# Altium integrated library Microchip Power Management Line Regulator.IntLib: 1169 symbols (part 4 of 31)
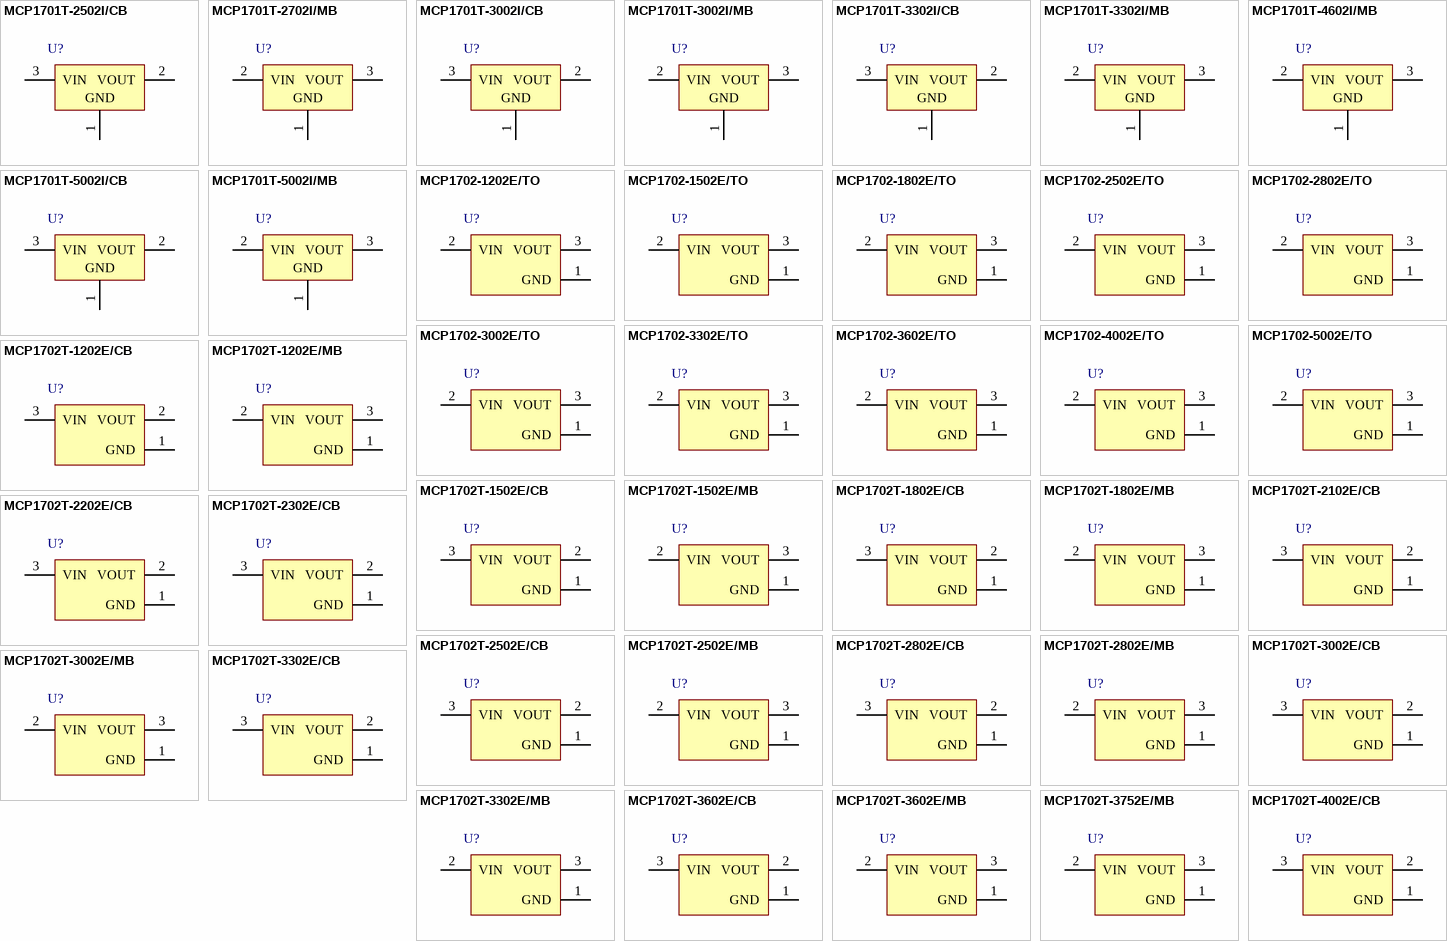
[diagram p32: symbols MCP1701T-2502I/CB to MCP1702T-4002E/CB]

## MCP1702T-3302E/CB
designator U?
250 mA Low Quiescent Current LDO Regulator, 3-Pin SOT-23A, Extended Temperature, Tape and Reel; Manufacturer: Microchip; PartNumber: MCP1702T-3302E/CB; DatasheetVersion: revD, Jun-2009; PackageVersion: revBB, Aug-2009; PackageReference: SOT-23A-CB3; PackageDescription: 3-Lead Plastic Small Outline Transistor (CB) [SOT-23A]; Supplier 1: Digi-Key; Supplier Part Number 1: MCP1702T-3302E/CBTR-ND; Supplier 2: Digi-Key; Supplier Part Number 2: MCP1702T-3302E/CBCT-ND; Supplier 3: Digi-Key; Supplier Part Number 3: MCP1702T-3302E/CBDKR-ND; Supplier 4: Farnell; Supplier Part Number 4: 1331490; Supplier 5: Farnell; Supplier Part Number 5: 1331490RL; Supplier 6: Farnell; Supplier Part Number 6: 2143269; Supplier 7: Newark; Supplier Part Number 7: 84R5179; Supplier 8: Newark; Supplier Part Number 8: 56K6992; Supplier 9: Mouser; Supplier Part Number 9: 579-MCP1702T3302E/CB; Mounting Technology: Surface Mount; ComponentLink1Description: Manufacturer URL; ComponentLink1URL: http://www.microchip.com/; ComponentLink2Description: Datasheet; ComponentLink2URL: http://ww1.microchip.com/downloads/en/DeviceDoc/22008d.pdf; ComponentLink3Description: Package Specification; ComponentLink3URL: http://www.microchip.com/stellent/groups/techpub_sg/documents/packagingspec/en012702.pdf
footprint SOT-23A-CB3_N (SOT346, 3-Leads, Body 2.9x1.5mm, Pitch 0.95mm, Lead Span 2.6mm, IPC Medium Density)
footprint SOT-23A-CB3_L (SOT346, 3-Leads, Body 2.9x1.5mm, Pitch 0.95mm, Lead Span 2.6mm, IPC High Density)
footprint SOT-23A-CB3_M (SOT346, 3-Leads, Body 2.9x1.5mm, Pitch 0.95mm, Lead Span 2.6mm, IPC Low Density)
pins: 1 GND (power), 2 VOUT (power), 3 VIN (power)

## MCP1702T-3302E/MB
designator U?
250 mA Low Quiescent Current LDO Regulator, 3-Pin SOT-89, Extended Temperature, Tape and Reel; Manufacturer: Microchip; PartNumber: MCP1702T-3302E/MB; DatasheetVersion: revD, Jun-2009; PackageVersion: revBB, Aug-2009; PackageReference: SOT-89-MB3; PackageDescription: 3-Lead Plastic Small Outline Transistor Header (MB) [SOT-89]; Supplier 1: Digi-Key; Supplier Part Number 1: MCP1702T-3302E/MBTR-ND; Supplier 2: Digi-Key; Supplier Part Number 2: MCP1702T-3302E/MBCT-ND; Supplier 3: Digi-Key; Supplier Part Number 3: MCP1702T-3302E/MBDKR-ND; Supplier 4: Farnell; Supplier Part Number 4: 1605558RL; Supplier 5: Farnell; Supplier Part Number 5: 1605558; Supplier 6: Newark; Supplier Part Number 6: 11N7989; Supplier 7: Newark; Supplier Part Number 7: 56K6993; Supplier 8: Mouser; Supplier Part Number 8: 579-MCP1702T3302E/MB; Mounting Technology: Surface Mount; Code_IPC: SOT89; ComponentLink1Description: Manufacturer URL; ComponentLink1URL: http://www.microchip.com/; ComponentLink2Description: Datasheet; ComponentLink2URL: http://ww1.microchip.com/downloads/en/DeviceDoc/22008d.pdf; ComponentLink3Description: Package Specification; ComponentLink3URL: http://www.microchip.com/stellent/groups/techpub_sg/documents/packagingspec/en012702.pdf
footprint SOT-89-MB3_N (SOT89, 3-Leads, Body 4.5x2.4 mm, Pitch 1.5mm, Lead Span 4.1mm, IPC Medium Density)
footprint SOT-89-MB3_L (SOT89, 3-Leads, Body 4.5x2.4 mm, Pitch 1.5mm, Lead Span 4.1mm, IPC High Density)
footprint SOT-89-MB3_M (SOT89, 3-Leads, Body 4.5x2.4 mm, Pitch 1.5mm, Lead Span 4.1mm, IPC Low Density)
pins: 1 GND (power), 2 VIN (power), 3 VOUT (power)

## MCP1702T-3602E/CB
designator U?
250 mA Low Quiescent Current LDO Regulator, 3-Pin SOT-23A, Extended Temperature, Tape and Reel; Manufacturer: Microchip; PartNumber: MCP1702T-3602E/CB; DatasheetVersion: revD, Jun-2009; PackageVersion: revBB, Aug-2009; PackageReference: SOT-23A-CB3; PackageDescription: 3-Lead Plastic Small Outline Transistor (CB) [SOT-23A]; Supplier 1: Digi-Key; Supplier Part Number 1: MCP1702T-3602E/CB-ND; Supplier 2: Newark; Supplier Part Number 2: 23T2775; Supplier 3: Mouser; Supplier Part Number 3: 579-MCP1702T-3602ECB; Mounting Technology: Surface Mount; ComponentLink1Description: Manufacturer URL; ComponentLink1URL: http://www.microchip.com/; ComponentLink2Description: Datasheet; ComponentLink2URL: http://ww1.microchip.com/downloads/en/DeviceDoc/22008d.pdf; ComponentLink3Description: Package Specification; ComponentLink3URL: http://www.microchip.com/stellent/groups/techpub_sg/documents/packagingspec/en012702.pdf
footprint SOT-23A-CB3_N (SOT346, 3-Leads, Body 2.9x1.5mm, Pitch 0.95mm, Lead Span 2.6mm, IPC Medium Density)
footprint SOT-23A-CB3_L (SOT346, 3-Leads, Body 2.9x1.5mm, Pitch 0.95mm, Lead Span 2.6mm, IPC High Density)
footprint SOT-23A-CB3_M (SOT346, 3-Leads, Body 2.9x1.5mm, Pitch 0.95mm, Lead Span 2.6mm, IPC Low Density)
pins: 1 GND (power), 2 VOUT (power), 3 VIN (power)

## MCP1702T-3602E/MB
designator U?
250 mA Low Quiescent Current LDO Regulator, 3-Pin SOT-89, Extended Temperature, Tape and Reel; Manufacturer: Microchip; PartNumber: MCP1702T-3602E/MB; DatasheetVersion: revD, Jun-2009; PackageVersion: revBB, Aug-2009; PackageReference: SOT-89-MB3; PackageDescription: 3-Lead Plastic Small Outline Transistor Header (MB) [SOT-89]; Supplier 1: Digi-Key; Supplier Part Number 1: MCP1702T-3602E/MB-ND; Supplier 2: Mouser; Supplier Part Number 2: 579-MCP1702T-3602EMB; Mounting Technology: Surface Mount; Code_IPC: SOT89; ComponentLink1Description: Manufacturer URL; ComponentLink1URL: http://www.microchip.com/; ComponentLink2Description: Datasheet; ComponentLink2URL: http://ww1.microchip.com/downloads/en/DeviceDoc/22008d.pdf; ComponentLink3Description: Package Specification; ComponentLink3URL: http://www.microchip.com/stellent/groups/techpub_sg/documents/packagingspec/en012702.pdf
footprint SOT-89-MB3_N (SOT89, 3-Leads, Body 4.5x2.4 mm, Pitch 1.5mm, Lead Span 4.1mm, IPC Medium Density)
footprint SOT-89-MB3_L (SOT89, 3-Leads, Body 4.5x2.4 mm, Pitch 1.5mm, Lead Span 4.1mm, IPC High Density)
footprint SOT-89-MB3_M (SOT89, 3-Leads, Body 4.5x2.4 mm, Pitch 1.5mm, Lead Span 4.1mm, IPC Low Density)
pins: 1 GND (power), 2 VIN (power), 3 VOUT (power)

## MCP1702T-3752E/MB
designator U?
250 mA Low Quiescent Current LDO Regulator, 3-Pin SOT-89, Extended Temperature, Tape and Reel; Manufacturer: Microchip; PartNumber: MCP1702T-3752E/MB; DatasheetVersion: revD, Jun-2009; PackageVersion: revBB, Aug-2009; PackageReference: SOT-89-MB3; PackageDescription: 3-Lead Plastic Small Outline Transistor Header (MB) [SOT-89]; Mounting Technology: Surface Mount; Code_IPC: SOT89; ComponentLink1Description: Manufacturer URL; ComponentLink1URL: http://www.microchip.com/; ComponentLink2Description: Datasheet; ComponentLink2URL: http://ww1.microchip.com/downloads/en/DeviceDoc/22008d.pdf; ComponentLink3Description: Package Specification; ComponentLink3URL: http://www.microchip.com/stellent/groups/techpub_sg/documents/packagingspec/en012702.pdf
footprint SOT-89-MB3_N (SOT89, 3-Leads, Body 4.5x2.4 mm, Pitch 1.5mm, Lead Span 4.1mm, IPC Medium Density)
footprint SOT-89-MB3_L (SOT89, 3-Leads, Body 4.5x2.4 mm, Pitch 1.5mm, Lead Span 4.1mm, IPC High Density)
footprint SOT-89-MB3_M (SOT89, 3-Leads, Body 4.5x2.4 mm, Pitch 1.5mm, Lead Span 4.1mm, IPC Low Density)
pins: 1 GND (power), 2 VIN (power), 3 VOUT (power)

## MCP1702T-4002E/CB
designator U?
250 mA Low Quiescent Current LDO Regulator, 3-Pin SOT-23A, Extended Temperature, Tape and Reel; Manufacturer: Microchip; PartNumber: MCP1702T-4002E/CB; DatasheetVersion: revD, Jun-2009; PackageVersion: revBB, Aug-2009; PackageReference: SOT-23A-CB3; PackageDescription: 3-Lead Plastic Small Outline Transistor (CB) [SOT-23A]; Supplier 1: Digi-Key; Supplier Part Number 1: MCP1702T-4002E/CBTR-ND; Supplier 2: Digi-Key; Supplier Part Number 2: MCP1702T-4002E/CBCT-ND; Supplier 3: Digi-Key; Supplier Part Number 3: MCP1702T-4002E/CBDKR-ND; Supplier 4: Newark; Supplier Part Number 4: 52R9898; Supplier 5: Mouser; Supplier Part Number 5: 579-MCP1702T4002E/CB; Mounting Technology: Surface Mount; ComponentLink1Description: Manufacturer URL; ComponentLink1URL: http://www.microchip.com/; ComponentLink2Description: Datasheet; ComponentLink2URL: http://ww1.microchip.com/downloads/en/DeviceDoc/22008d.pdf; ComponentLink3Description: Package Specification; ComponentLink3URL: http://www.microchip.com/stellent/groups/techpub_sg/documents/packagingspec/en012702.pdf
footprint SOT-23A-CB3_N (SOT346, 3-Leads, Body 2.9x1.5mm, Pitch 0.95mm, Lead Span 2.6mm, IPC Medium Density)
footprint SOT-23A-CB3_L (SOT346, 3-Leads, Body 2.9x1.5mm, Pitch 0.95mm, Lead Span 2.6mm, IPC High Density)
footprint SOT-23A-CB3_M (SOT346, 3-Leads, Body 2.9x1.5mm, Pitch 0.95mm, Lead Span 2.6mm, IPC Low Density)
pins: 1 GND (power), 2 VOUT (power), 3 VIN (power)

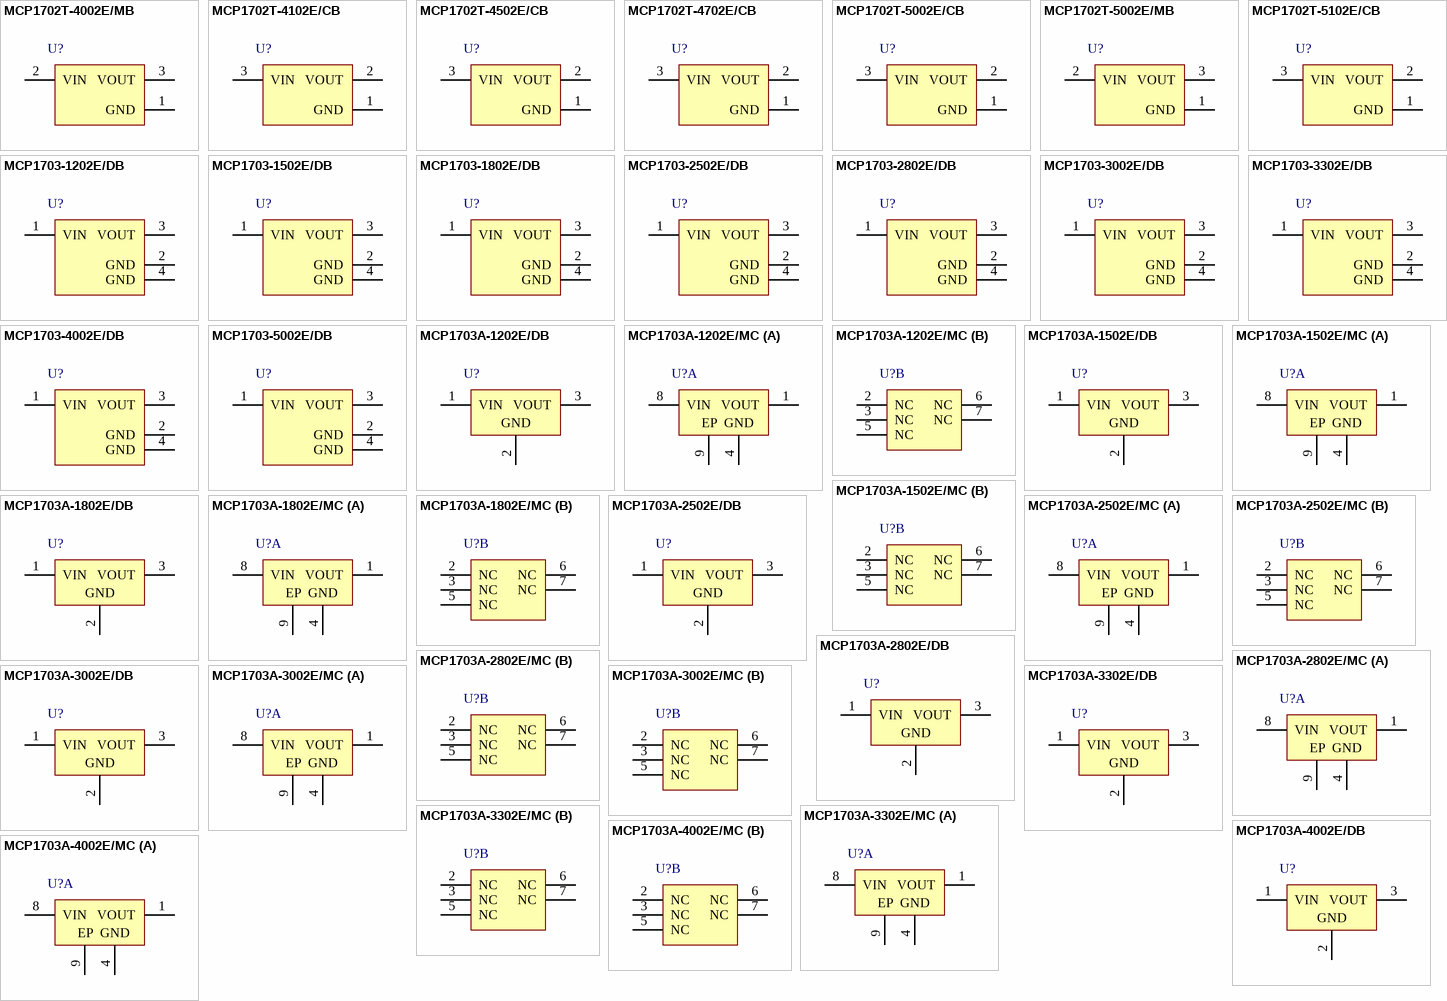
[diagram p3: symbols MCP1702T-4002E/MB to MCP1703A-4002E/MC]

## MCP1702T-4002E/MB
designator U?
250 mA Low Quiescent Current LDO Regulator, 3-Pin SOT-89, Extended Temperature, Tape and Reel; Manufacturer: Microchip; PartNumber: MCP1702T-4002E/MB; DatasheetVersion: revD, Jun-2009; PackageVersion: revBB, Aug-2009; PackageReference: SOT-89-MB3; PackageDescription: 3-Lead Plastic Small Outline Transistor Header (MB) [SOT-89]; Supplier 1: Digi-Key; Supplier Part Number 1: MCP1702T-4002E/MBTR-ND; Supplier 2: Digi-Key; Supplier Part Number 2: MCP1702T-4002E/MBCT-ND; Supplier 3: Digi-Key; Supplier Part Number 3: MCP1702T-4002E/MBDKR-ND; Supplier 4: Mouser; Supplier Part Number 4: 579-MCP1702T4002E/MB; Mounting Technology: Surface Mount; Code_IPC: SOT89; ComponentLink1Description: Manufacturer URL; ComponentLink1URL: http://www.microchip.com/; ComponentLink2Description: Datasheet; ComponentLink2URL: http://ww1.microchip.com/downloads/en/DeviceDoc/22008d.pdf; ComponentLink3Description: Package Specification; ComponentLink3URL: http://www.microchip.com/stellent/groups/techpub_sg/documents/packagingspec/en012702.pdf
footprint SOT-89-MB3_N (SOT89, 3-Leads, Body 4.5x2.4 mm, Pitch 1.5mm, Lead Span 4.1mm, IPC Medium Density)
footprint SOT-89-MB3_L (SOT89, 3-Leads, Body 4.5x2.4 mm, Pitch 1.5mm, Lead Span 4.1mm, IPC High Density)
footprint SOT-89-MB3_M (SOT89, 3-Leads, Body 4.5x2.4 mm, Pitch 1.5mm, Lead Span 4.1mm, IPC Low Density)
pins: 1 GND (power), 2 VIN (power), 3 VOUT (power)

## MCP1702T-4102E/CB
designator U?
250 mA Low Quiescent Current LDO Regulator, 3-Pin SOT-23A, Extended Temperature, Tape and Reel; Manufacturer: Microchip; PartNumber: MCP1702T-4102E/CB; DatasheetVersion: revD, Jun-2009; PackageVersion: revBB, Aug-2009; PackageReference: SOT-23A-CB3; PackageDescription: 3-Lead Plastic Small Outline Transistor (CB) [SOT-23A]; Supplier 1: Digi-Key; Supplier Part Number 1: MCP1702T-4102E/CB-ND; Supplier 2: Mouser; Supplier Part Number 2: 579-MCP1702T-4102ECB; Mounting Technology: Surface Mount; ComponentLink1Description: Manufacturer URL; ComponentLink1URL: http://www.microchip.com/; ComponentLink2Description: Datasheet; ComponentLink2URL: http://ww1.microchip.com/downloads/en/DeviceDoc/22008d.pdf; ComponentLink3Description: Package Specification; ComponentLink3URL: http://www.microchip.com/stellent/groups/techpub_sg/documents/packagingspec/en012702.pdf
footprint SOT-23A-CB3_N (SOT346, 3-Leads, Body 2.9x1.5mm, Pitch 0.95mm, Lead Span 2.6mm, IPC Medium Density)
footprint SOT-23A-CB3_L (SOT346, 3-Leads, Body 2.9x1.5mm, Pitch 0.95mm, Lead Span 2.6mm, IPC High Density)
footprint SOT-23A-CB3_M (SOT346, 3-Leads, Body 2.9x1.5mm, Pitch 0.95mm, Lead Span 2.6mm, IPC Low Density)
pins: 1 GND (power), 2 VOUT (power), 3 VIN (power)

## MCP1702T-4502E/CB
designator U?
250 mA Low Quiescent Current LDO Regulator, 3-Pin SOT-23A, Extended Temperature, Tape and Reel; Manufacturer: Microchip; PartNumber: MCP1702T-4502E/CB; DatasheetVersion: revD, Jun-2009; PackageVersion: revBB, Aug-2009; PackageReference: SOT-23A-CB3; PackageDescription: 3-Lead Plastic Small Outline Transistor (CB) [SOT-23A]; Mounting Technology: Surface Mount; ComponentLink1Description: Manufacturer URL; ComponentLink1URL: http://www.microchip.com/; ComponentLink2Description: Datasheet; ComponentLink2URL: http://ww1.microchip.com/downloads/en/DeviceDoc/22008d.pdf; ComponentLink3Description: Package Specification; ComponentLink3URL: http://www.microchip.com/stellent/groups/techpub_sg/documents/packagingspec/en012702.pdf
footprint SOT-23A-CB3_N (SOT346, 3-Leads, Body 2.9x1.5mm, Pitch 0.95mm, Lead Span 2.6mm, IPC Medium Density)
footprint SOT-23A-CB3_L (SOT346, 3-Leads, Body 2.9x1.5mm, Pitch 0.95mm, Lead Span 2.6mm, IPC High Density)
footprint SOT-23A-CB3_M (SOT346, 3-Leads, Body 2.9x1.5mm, Pitch 0.95mm, Lead Span 2.6mm, IPC Low Density)
pins: 1 GND (power), 2 VOUT (power), 3 VIN (power)

## MCP1702T-4702E/CB
designator U?
250 mA Low Quiescent Current LDO Regulator, 3-Pin SOT-23A, Extended Temperature, Tape and Reel; Manufacturer: Microchip; PartNumber: MCP1702T-4702E/CB; DatasheetVersion: revD, Jun-2009; PackageVersion: revBB, Aug-2009; PackageReference: SOT-23A-CB3; PackageDescription: 3-Lead Plastic Small Outline Transistor (CB) [SOT-23A]; Supplier 1: Digi-Key; Supplier Part Number 1: MCP1702T-4702E/CB-ND; Supplier 2: Mouser; Supplier Part Number 2: 579-MCP1702T-4702ECB; Mounting Technology: Surface Mount; ComponentLink1Description: Manufacturer URL; ComponentLink1URL: http://www.microchip.com/; ComponentLink2Description: Datasheet; ComponentLink2URL: http://ww1.microchip.com/downloads/en/DeviceDoc/22008d.pdf; ComponentLink3Description: Package Specification; ComponentLink3URL: http://www.microchip.com/stellent/groups/techpub_sg/documents/packagingspec/en012702.pdf
footprint SOT-23A-CB3_N (SOT346, 3-Leads, Body 2.9x1.5mm, Pitch 0.95mm, Lead Span 2.6mm, IPC Medium Density)
footprint SOT-23A-CB3_L (SOT346, 3-Leads, Body 2.9x1.5mm, Pitch 0.95mm, Lead Span 2.6mm, IPC High Density)
footprint SOT-23A-CB3_M (SOT346, 3-Leads, Body 2.9x1.5mm, Pitch 0.95mm, Lead Span 2.6mm, IPC Low Density)
pins: 1 GND (power), 2 VOUT (power), 3 VIN (power)

## MCP1702T-5002E/CB
designator U?
250 mA Low Quiescent Current LDO Regulator, 3-Pin SOT-23A, Extended Temperature, Tape and Reel; Manufacturer: Microchip; PartNumber: MCP1702T-5002E/CB; DatasheetVersion: revD, Jun-2009; PackageVersion: revBB, Aug-2009; PackageReference: SOT-23A-CB3; PackageDescription: 3-Lead Plastic Small Outline Transistor (CB) [SOT-23A]; Supplier 1: Digi-Key; Supplier Part Number 1: MCP1702T-5002E/CBTR-ND; Supplier 2: Digi-Key; Supplier Part Number 2: MCP1702T-5002E/CBCT-ND; Supplier 3: Digi-Key; Supplier Part Number 3: MCP1702T-5002E/CBDKR-ND; Supplier 4: Farnell; Supplier Part Number 4: 1331491; Supplier 5: Farnell; Supplier Part Number 5: 1331491RL; Supplier 6: Newark; Supplier Part Number 6: 84R5180; Supplier 7: Newark; Supplier Part Number 7: 56K6994; Supplier 8: Mouser; Supplier Part Number 8: 579-MCP1702T5002E/CB; Mounting Technology: Surface Mount; ComponentLink1Description: Manufacturer URL; ComponentLink1URL: http://www.microchip.com/; ComponentLink2Description: Datasheet; ComponentLink2URL: http://ww1.microchip.com/downloads/en/DeviceDoc/22008d.pdf; ComponentLink3Description: Package Specification; ComponentLink3URL: http://www.microchip.com/stellent/groups/techpub_sg/documents/packagingspec/en012702.pdf
footprint SOT-23A-CB3_N (SOT346, 3-Leads, Body 2.9x1.5mm, Pitch 0.95mm, Lead Span 2.6mm, IPC Medium Density)
footprint SOT-23A-CB3_L (SOT346, 3-Leads, Body 2.9x1.5mm, Pitch 0.95mm, Lead Span 2.6mm, IPC High Density)
footprint SOT-23A-CB3_M (SOT346, 3-Leads, Body 2.9x1.5mm, Pitch 0.95mm, Lead Span 2.6mm, IPC Low Density)
pins: 1 GND (power), 2 VOUT (power), 3 VIN (power)

## MCP1702T-5002E/MB
designator U?
250 mA Low Quiescent Current LDO Regulator, 3-Pin SOT-89, Extended Temperature, Tape and Reel; Manufacturer: Microchip; PartNumber: MCP1702T-5002E/MB; DatasheetVersion: revD, Jun-2009; PackageVersion: revBB, Aug-2009; PackageReference: SOT-89-MB3; PackageDescription: 3-Lead Plastic Small Outline Transistor Header (MB) [SOT-89]; Supplier 1: Digi-Key; Supplier Part Number 1: MCP1702T-5002E/MBTR-ND; Supplier 2: Digi-Key; Supplier Part Number 2: MCP1702T-5002E/MBCT-ND; Supplier 3: Digi-Key; Supplier Part Number 3: MCP1702T-5002E/MBDKR-ND; Supplier 4: Farnell; Supplier Part Number 4: 1605559; Supplier 5: Farnell; Supplier Part Number 5: 1605559RL; Supplier 6: Newark; Supplier Part Number 6: 56K6995; Supplier 7: Mouser; Supplier Part Number 7: 579-MCP1702T5002E/MB; Mounting Technology: Surface Mount; Code_IPC: SOT89; ComponentLink1Description: Manufacturer URL; ComponentLink1URL: http://www.microchip.com/; ComponentLink2Description: Datasheet; ComponentLink2URL: http://ww1.microchip.com/downloads/en/DeviceDoc/22008d.pdf; ComponentLink3Description: Package Specification; ComponentLink3URL: http://www.microchip.com/stellent/groups/techpub_sg/documents/packagingspec/en012702.pdf
footprint SOT-89-MB3_N (SOT89, 3-Leads, Body 4.5x2.4 mm, Pitch 1.5mm, Lead Span 4.1mm, IPC Medium Density)
footprint SOT-89-MB3_L (SOT89, 3-Leads, Body 4.5x2.4 mm, Pitch 1.5mm, Lead Span 4.1mm, IPC High Density)
footprint SOT-89-MB3_M (SOT89, 3-Leads, Body 4.5x2.4 mm, Pitch 1.5mm, Lead Span 4.1mm, IPC Low Density)
pins: 1 GND (power), 2 VIN (power), 3 VOUT (power)

## MCP1702T-5102E/CB
designator U?
250 mA Low Quiescent Current LDO Regulator, 3-Pin SOT-23A, Extended Temperature, Tape and Reel; Manufacturer: Microchip; PartNumber: MCP1702T-5102E/CB; DatasheetVersion: revD, Jun-2009; PackageVersion: revBB, Aug-2009; PackageReference: SOT-23A-CB3; PackageDescription: 3-Lead Plastic Small Outline Transistor (CB) [SOT-23A]; Mounting Technology: Surface Mount; ComponentLink1Description: Manufacturer URL; ComponentLink1URL: http://www.microchip.com/; ComponentLink2Description: Datasheet; ComponentLink2URL: http://ww1.microchip.com/downloads/en/DeviceDoc/22008d.pdf; ComponentLink3Description: Package Specification; ComponentLink3URL: http://www.microchip.com/stellent/groups/techpub_sg/documents/packagingspec/en012702.pdf
footprint SOT-23A-CB3_N (SOT346, 3-Leads, Body 2.9x1.5mm, Pitch 0.95mm, Lead Span 2.6mm, IPC Medium Density)
footprint SOT-23A-CB3_L (SOT346, 3-Leads, Body 2.9x1.5mm, Pitch 0.95mm, Lead Span 2.6mm, IPC High Density)
footprint SOT-23A-CB3_M (SOT346, 3-Leads, Body 2.9x1.5mm, Pitch 0.95mm, Lead Span 2.6mm, IPC Low Density)
pins: 1 GND (power), 2 VOUT (power), 3 VIN (power)

## MCP1703-1202E/DB
designator U?
250 mA, 16V, Low Quiescent Current LDO Regulator, 3-Pin SOT-223, Extended Temperature; Manufacturer: Microchip; PartNumber: MCP1703-1202E/DB; DatasheetVersion: revD, Sep-2009; PackageVersion: revBB, Aug-2009; PackageReference: SOT-223-DB3; PackageDescription: 3-Lead Plastic Small Outline Transistor (DB) [SOT-223]; Supplier 1: Digi-Key; Supplier Part Number 1: MCP1703-1202E/DB-ND; Supplier 2: Newark; Supplier Part Number 2: 40M0619; Supplier 3: Mouser; Supplier Part Number 3: 579-MCP1703-1202E/DB; Mounting Technology: Surface Mount; ComponentLink1Description: Manufacturer URL; ComponentLink1URL: http://www.microchip.com/; ComponentLink2Description: Datasheet; ComponentLink2URL: http://ww1.microchip.com/downloads/en/DeviceDoc/22049d.pdf; ComponentLink3Description: Package Specification; ComponentLink3URL: http://www.microchip.com/stellent/groups/techpub_sg/documents/packagingspec/en012702.pdf
footprint SOT-223-DB3_N (SOT223, 4-Leads, Body 6.5x3.5mm, Pitch 2.3mm, Lead Span 7mm, IPC Medium Density)
footprint SOT-223-DB3_L (SOT223, 4-Leads, Body 6.5x3.5mm, Pitch 2.3mm, Lead Span 7mm, IPC High Density)
footprint SOT-223-DB3_M (SOT223, 4-Leads, Body 6.5x3.5mm, Pitch 2.3mm, Lead Span 7mm, IPC Low Density)
pins: 1 VIN (power), 2 GND (power), 3 VOUT (power), 4 GND (power)

## MCP1703-1502E/DB
designator U?
250 mA, 16V, Low Quiescent Current LDO Regulator, 3-Pin SOT-223, Extended Temperature; Manufacturer: Microchip; PartNumber: MCP1703-1502E/DB; DatasheetVersion: revD, Sep-2009; PackageVersion: revBB, Aug-2009; PackageReference: SOT-223-DB3; PackageDescription: 3-Lead Plastic Small Outline Transistor (DB) [SOT-223]; Supplier 1: Digi-Key; Supplier Part Number 1: MCP1703-1502E/DB-ND; Supplier 2: Newark; Supplier Part Number 2: 07P9500; Supplier 3: Mouser; Supplier Part Number 3: 579-MCP1703-1502E/DB; Mounting Technology: Surface Mount; ComponentLink1Description: Manufacturer URL; ComponentLink1URL: http://www.microchip.com/; ComponentLink2Description: Datasheet; ComponentLink2URL: http://ww1.microchip.com/downloads/en/DeviceDoc/22049d.pdf; ComponentLink3Description: Package Specification; ComponentLink3URL: http://www.microchip.com/stellent/groups/techpub_sg/documents/packagingspec/en012702.pdf
footprint SOT-223-DB3_N (SOT223, 4-Leads, Body 6.5x3.5mm, Pitch 2.3mm, Lead Span 7mm, IPC Medium Density)
footprint SOT-223-DB3_L (SOT223, 4-Leads, Body 6.5x3.5mm, Pitch 2.3mm, Lead Span 7mm, IPC High Density)
footprint SOT-223-DB3_M (SOT223, 4-Leads, Body 6.5x3.5mm, Pitch 2.3mm, Lead Span 7mm, IPC Low Density)
pins: 1 VIN (power), 2 GND (power), 3 VOUT (power), 4 GND (power)

## MCP1703-1802E/DB
designator U?
250 mA, 16V, Low Quiescent Current LDO Regulator, 3-Pin SOT-223, Extended Temperature; Manufacturer: Microchip; PartNumber: MCP1703-1802E/DB; DatasheetVersion: revD, Sep-2009; PackageVersion: revBB, Aug-2009; PackageReference: SOT-223-DB3; PackageDescription: 3-Lead Plastic Small Outline Transistor (DB) [SOT-223]; Supplier 1: Digi-Key; Supplier Part Number 1: MCP1703-1802E/DB-ND; Supplier 2: Newark; Supplier Part Number 2: 40M0620; Supplier 3: Mouser; Supplier Part Number 3: 579-MCP1703-1802E/DB; Mounting Technology: Surface Mount; ComponentLink1Description: Manufacturer URL; ComponentLink1URL: http://www.microchip.com/; ComponentLink2Description: Datasheet; ComponentLink2URL: http://ww1.microchip.com/downloads/en/DeviceDoc/22049d.pdf; ComponentLink3Description: Package Specification; ComponentLink3URL: http://www.microchip.com/stellent/groups/techpub_sg/documents/packagingspec/en012702.pdf
footprint SOT-223-DB3_N (SOT223, 4-Leads, Body 6.5x3.5mm, Pitch 2.3mm, Lead Span 7mm, IPC Medium Density)
footprint SOT-223-DB3_L (SOT223, 4-Leads, Body 6.5x3.5mm, Pitch 2.3mm, Lead Span 7mm, IPC High Density)
footprint SOT-223-DB3_M (SOT223, 4-Leads, Body 6.5x3.5mm, Pitch 2.3mm, Lead Span 7mm, IPC Low Density)
pins: 1 VIN (power), 2 GND (power), 3 VOUT (power), 4 GND (power)

## MCP1703-2502E/DB
designator U?
250 mA, 16V, Low Quiescent Current LDO Regulator, 3-Pin SOT-223, Extended Temperature; Manufacturer: Microchip; PartNumber: MCP1703-2502E/DB; DatasheetVersion: revD, Sep-2009; PackageVersion: revBB, Aug-2009; PackageReference: SOT-223-DB3; PackageDescription: 3-Lead Plastic Small Outline Transistor (DB) [SOT-223]; Supplier 1: Digi-Key; Supplier Part Number 1: MCP1703-2502E/DB-ND; Supplier 2: Mouser; Supplier Part Number 2: 579-MCP1703-2502E/DB; Mounting Technology: Surface Mount; ComponentLink1Description: Manufacturer URL; ComponentLink1URL: http://www.microchip.com/; ComponentLink2Description: Datasheet; ComponentLink2URL: http://ww1.microchip.com/downloads/en/DeviceDoc/22049d.pdf; ComponentLink3Description: Package Specification; ComponentLink3URL: http://www.microchip.com/stellent/groups/techpub_sg/documents/packagingspec/en012702.pdf
footprint SOT-223-DB3_N (SOT223, 4-Leads, Body 6.5x3.5mm, Pitch 2.3mm, Lead Span 7mm, IPC Medium Density)
footprint SOT-223-DB3_L (SOT223, 4-Leads, Body 6.5x3.5mm, Pitch 2.3mm, Lead Span 7mm, IPC High Density)
footprint SOT-223-DB3_M (SOT223, 4-Leads, Body 6.5x3.5mm, Pitch 2.3mm, Lead Span 7mm, IPC Low Density)
pins: 1 VIN (power), 2 GND (power), 3 VOUT (power), 4 GND (power)

## MCP1703-2802E/DB
designator U?
250 mA, 16V, Low Quiescent Current LDO Regulator, 3-Pin SOT-223, Extended Temperature; Manufacturer: Microchip; PartNumber: MCP1703-2802E/DB; DatasheetVersion: revD, Sep-2009; PackageVersion: revBB, Aug-2009; PackageReference: SOT-223-DB3; PackageDescription: 3-Lead Plastic Small Outline Transistor (DB) [SOT-223]; Supplier 1: Digi-Key; Supplier Part Number 1: MCP1703-2802E/DB-ND; Supplier 2: Mouser; Supplier Part Number 2: 579-MCP17032802E/DB; Mounting Technology: Surface Mount; ComponentLink1Description: Manufacturer URL; ComponentLink1URL: http://www.microchip.com/; ComponentLink2Description: Datasheet; ComponentLink2URL: http://ww1.microchip.com/downloads/en/DeviceDoc/22049d.pdf; ComponentLink3Description: Package Specification; ComponentLink3URL: http://www.microchip.com/stellent/groups/techpub_sg/documents/packagingspec/en012702.pdf
footprint SOT-223-DB3_N (SOT223, 4-Leads, Body 6.5x3.5mm, Pitch 2.3mm, Lead Span 7mm, IPC Medium Density)
footprint SOT-223-DB3_L (SOT223, 4-Leads, Body 6.5x3.5mm, Pitch 2.3mm, Lead Span 7mm, IPC High Density)
footprint SOT-223-DB3_M (SOT223, 4-Leads, Body 6.5x3.5mm, Pitch 2.3mm, Lead Span 7mm, IPC Low Density)
pins: 1 VIN (power), 2 GND (power), 3 VOUT (power), 4 GND (power)

## MCP1703-3002E/DB
designator U?
250 mA, 16V, Low Quiescent Current LDO Regulator, 3-Pin SOT-223, Extended Temperature; Manufacturer: Microchip; PartNumber: MCP1703-3002E/DB; DatasheetVersion: revD, Sep-2009; PackageVersion: revBB, Aug-2009; PackageReference: SOT-223-DB3; PackageDescription: 3-Lead Plastic Small Outline Transistor (DB) [SOT-223]; Supplier 1: Digi-Key; Supplier Part Number 1: MCP1703-3002E/DB-ND; Supplier 2: Newark; Supplier Part Number 2: 40M0622; Supplier 3: Mouser; Supplier Part Number 3: 579-MCP1703-3002E/DB; Mounting Technology: Surface Mount; ComponentLink1Description: Manufacturer URL; ComponentLink1URL: http://www.microchip.com/; ComponentLink2Description: Datasheet; ComponentLink2URL: http://ww1.microchip.com/downloads/en/DeviceDoc/22049d.pdf; ComponentLink3Description: Package Specification; ComponentLink3URL: http://www.microchip.com/stellent/groups/techpub_sg/documents/packagingspec/en012702.pdf
footprint SOT-223-DB3_N (SOT223, 4-Leads, Body 6.5x3.5mm, Pitch 2.3mm, Lead Span 7mm, IPC Medium Density)
footprint SOT-223-DB3_L (SOT223, 4-Leads, Body 6.5x3.5mm, Pitch 2.3mm, Lead Span 7mm, IPC High Density)
footprint SOT-223-DB3_M (SOT223, 4-Leads, Body 6.5x3.5mm, Pitch 2.3mm, Lead Span 7mm, IPC Low Density)
pins: 1 VIN (power), 2 GND (power), 3 VOUT (power), 4 GND (power)

## MCP1703-3302E/DB
designator U?
250 mA, 16V, Low Quiescent Current LDO Regulator, 3-Pin SOT-223, Extended Temperature; Manufacturer: Microchip; PartNumber: MCP1703-3302E/DB; DatasheetVersion: revD, Sep-2009; PackageVersion: revBB, Aug-2009; PackageReference: SOT-223-DB3; PackageDescription: 3-Lead Plastic Small Outline Transistor (DB) [SOT-223]; Supplier 1: Digi-Key; Supplier Part Number 1: MCP1703-3302E/DB-ND; Supplier 2: Farnell; Supplier Part Number 2: 1627177; Supplier 3: Newark; Supplier Part Number 3: 40M0623; Supplier 4: Mouser; Supplier Part Number 4: 579-MCP1703-3302E/DB; Mounting Technology: Surface Mount; ComponentLink1Description: Manufacturer URL; ComponentLink1URL: http://www.microchip.com/; ComponentLink2Description: Datasheet; ComponentLink2URL: http://ww1.microchip.com/downloads/en/DeviceDoc/22049d.pdf; ComponentLink3Description: Package Specification; ComponentLink3URL: http://www.microchip.com/stellent/groups/techpub_sg/documents/packagingspec/en012702.pdf
footprint SOT-223-DB3_N (SOT223, 4-Leads, Body 6.5x3.5mm, Pitch 2.3mm, Lead Span 7mm, IPC Medium Density)
footprint SOT-223-DB3_L (SOT223, 4-Leads, Body 6.5x3.5mm, Pitch 2.3mm, Lead Span 7mm, IPC High Density)
footprint SOT-223-DB3_M (SOT223, 4-Leads, Body 6.5x3.5mm, Pitch 2.3mm, Lead Span 7mm, IPC Low Density)
pins: 1 VIN (power), 2 GND (power), 3 VOUT (power), 4 GND (power)

## MCP1703-4002E/DB
designator U?
250 mA, 16V, Low Quiescent Current LDO Regulator, 3-Pin SOT-223, Extended Temperature; Manufacturer: Microchip; PartNumber: MCP1703-4002E/DB; DatasheetVersion: revD, Sep-2009; PackageVersion: revBB, Aug-2009; PackageReference: SOT-223-DB3; PackageDescription: 3-Lead Plastic Small Outline Transistor (DB) [SOT-223]; Supplier 1: Digi-Key; Supplier Part Number 1: MCP1703-4002E/DB-ND; Supplier 2: Newark; Supplier Part Number 2: 52R9901; Supplier 3: Mouser; Supplier Part Number 3: 579-MCP17034002E/DB; Mounting Technology: Surface Mount; ComponentLink1Description: Manufacturer URL; ComponentLink1URL: http://www.microchip.com/; ComponentLink2Description: Datasheet; ComponentLink2URL: http://ww1.microchip.com/downloads/en/DeviceDoc/22049d.pdf; ComponentLink3Description: Package Specification; ComponentLink3URL: http://www.microchip.com/stellent/groups/techpub_sg/documents/packagingspec/en012702.pdf
footprint SOT-223-DB3_N (SOT223, 4-Leads, Body 6.5x3.5mm, Pitch 2.3mm, Lead Span 7mm, IPC Medium Density)
footprint SOT-223-DB3_L (SOT223, 4-Leads, Body 6.5x3.5mm, Pitch 2.3mm, Lead Span 7mm, IPC High Density)
footprint SOT-223-DB3_M (SOT223, 4-Leads, Body 6.5x3.5mm, Pitch 2.3mm, Lead Span 7mm, IPC Low Density)
pins: 1 VIN (power), 2 GND (power), 3 VOUT (power), 4 GND (power)

## MCP1703-5002E/DB
designator U?
250 mA, 16V, Low Quiescent Current LDO Regulator, 3-Pin SOT-223, Extended Temperature; Manufacturer: Microchip; PartNumber: MCP1703-5002E/DB; DatasheetVersion: revD, Sep-2009; PackageVersion: revBB, Aug-2009; PackageReference: SOT-223-DB3; PackageDescription: 3-Lead Plastic Small Outline Transistor (DB) [SOT-223]; Supplier 1: Digi-Key; Supplier Part Number 1: MCP1703-5002E/DB-ND; Supplier 2: Farnell; Supplier Part Number 2: 1627178; Supplier 3: Farnell; Supplier Part Number 3: 2133189; Supplier 4: Newark; Supplier Part Number 4: 40M0624; Supplier 5: Mouser; Supplier Part Number 5: 579-MCP1703-5002E/DB; Mounting Technology: Surface Mount; ComponentLink1Description: Manufacturer URL; ComponentLink1URL: http://www.microchip.com/; ComponentLink2Description: Datasheet; ComponentLink2URL: http://ww1.microchip.com/downloads/en/DeviceDoc/22049d.pdf; ComponentLink3Description: Package Specification; ComponentLink3URL: http://www.microchip.com/stellent/groups/techpub_sg/documents/packagingspec/en012702.pdf
footprint SOT-223-DB3_N (SOT223, 4-Leads, Body 6.5x3.5mm, Pitch 2.3mm, Lead Span 7mm, IPC Medium Density)
footprint SOT-223-DB3_L (SOT223, 4-Leads, Body 6.5x3.5mm, Pitch 2.3mm, Lead Span 7mm, IPC High Density)
footprint SOT-223-DB3_M (SOT223, 4-Leads, Body 6.5x3.5mm, Pitch 2.3mm, Lead Span 7mm, IPC Low Density)
pins: 1 VIN (power), 2 GND (power), 3 VOUT (power), 4 GND (power)

## MCP1703A-1202E/DB
designator U?
250 mA, 16 V, Low Quiescent Current LDO Regulator, -40 to 125 degC, 3-pin SOT-223 (DB3), Tube; Manufacturer: Microchip; PartNumber: MCP1703A-1202E/DB; DatasheetVersion: Rev. A; PackageVersion: C04-032B; PackageReference: SOT-223-DB3; PackageDescription: 3-Lead Plastic Small Outline Transistor, 6.5 x 3.5 mm Body, 2.3 mm Pitch; Supplier 1: Digi-Key; Supplier Part Number 1: MCP1703A-1202E/DB-ND; Supplier 2: Farnell; Supplier Part Number 2: 2113886; Supplier 3: Newark; Supplier Part Number 3: 95T9276; Supplier 4: Newark; Supplier Part Number 4: 90T5912; Supplier 5: Mouser; Supplier Part Number 5: 579-MCP1703A-1202EDB; Mounting Technology: Surface Mount; ComponentLink1Description: Manufacturer URL; ComponentLink1URL: http://www.microchip.com; ComponentLink2Description: Datasheet; ComponentLink2URL: http://ww1.microchip.com/downloads/en/DeviceDoc/25122A.pdf; ComponentLink3Description: Package Specification; ComponentLink3URL: http://www.microchip.com/stellent/groups/techpub_sg/documents/packagingspec/en012702.pdf; ComponentLink4Description: Product URL; ComponentLink4URL: http://www.microchip.com/MCP1703A
footprint MCHP-SOT-223-DB3_N (SOT223, 3-Leads, Body 6.5x3.5mm, Pitch 2.3mm, IPC Medium Density)
footprint MCHP-SOT-223-DB3_L (SOT223, 3-Leads, Body 6.5x3.5mm, Pitch 2.3mm, IPC High Density)
footprint MCHP-SOT-223-DB3_M (SOT223, 3-Leads, Body 6.5x3.5mm, Pitch 2.3mm, IPC Low Density)
pins: 1 VIN (power) "Unregulated Supply Voltage", 2 GND (power) "Ground Terminal", 3 VOUT (power) "Regulated Voltage Output"

## MCP1703A-1202E/MC
designator U?
250 mA, 16 V, Low Quiescent Current LDO Regulator, -40 to 125 degC, 8-pin DFN (MC8), Tube; Manufacturer: Microchip; PartNumber: MCP1703A-1202E/MC; DatasheetVersion: Rev. A; PackageVersion: C04-123C; PackageReference: DFN-MC8; PackageDescription: 8-Lead Plastic Dual Flat, 2 x 3 mm Body, 0.5 mm Pitch; Mounting Technology: Surface Mount; ComponentLink1Description: Manufacturer URL; ComponentLink1URL: http://www.microchip.com; ComponentLink2Description: Datasheet; ComponentLink2URL: http://ww1.microchip.com/downloads/en/DeviceDoc/25122A.pdf; ComponentLink3Description: Package Specification; ComponentLink3URL: http://www.microchip.com/stellent/groups/techpub_sg/documents/packagingspec/en012702.pdf; ComponentLink4Description: Product URL; ComponentLink4URL: http://www.microchip.com/MCP1703A
footprint MCHP-DFN-MC8_V (SON, 8-Leads, Body 3x2mm, Pitch 0.5mm, Thermal Pad 1.45x1.75mm)
part A pins: 1 VOUT (power) "Regulated Voltage Output", 4 GND (power) "Ground Terminal", 8 VIN (power) "Unregulated Supply Voltage", 9 EP (power) "Exposed Thermal Pad (EP); must be connected to VSS"
part B pins: 2 NC "No Connection", 3 NC "No Connection", 5 NC "No Connection", 6 NC "No Connection", 7 NC "No Connection"

## MCP1703A-1502E/DB
designator U?
250 mA, 16 V, Low Quiescent Current LDO Regulator, -40 to 125 degC, 3-pin SOT-223 (DB3), Tube; Manufacturer: Microchip; PartNumber: MCP1703A-1502E/DB; DatasheetVersion: Rev. A; PackageVersion: C04-032B; PackageReference: SOT-223-DB3; PackageDescription: 3-Lead Plastic Small Outline Transistor, 6.5 x 3.5 mm Body, 2.3 mm Pitch; Supplier 1: Digi-Key; Supplier Part Number 1: MCP1703A-1502E/DB-ND; Supplier 2: Farnell; Supplier Part Number 2: 2113887; Supplier 3: Newark; Supplier Part Number 3: 95T9277; Supplier 4: Newark; Supplier Part Number 4: 90T5913; Supplier 5: Mouser; Supplier Part Number 5: 579-MCP1703A-1502EDB; Mounting Technology: Surface Mount; ComponentLink1Description: Manufacturer URL; ComponentLink1URL: http://www.microchip.com; ComponentLink2Description: Datasheet; ComponentLink2URL: http://ww1.microchip.com/downloads/en/DeviceDoc/25122A.pdf; ComponentLink3Description: Package Specification; ComponentLink3URL: http://www.microchip.com/stellent/groups/techpub_sg/documents/packagingspec/en012702.pdf; ComponentLink4Description: Product URL; ComponentLink4URL: http://www.microchip.com/MCP1703A
footprint MCHP-SOT-223-DB3_N (SOT223, 3-Leads, Body 6.5x3.5mm, Pitch 2.3mm, IPC Medium Density)
footprint MCHP-SOT-223-DB3_L (SOT223, 3-Leads, Body 6.5x3.5mm, Pitch 2.3mm, IPC High Density)
footprint MCHP-SOT-223-DB3_M (SOT223, 3-Leads, Body 6.5x3.5mm, Pitch 2.3mm, IPC Low Density)
pins: 1 VIN (power) "Unregulated Supply Voltage", 2 GND (power) "Ground Terminal", 3 VOUT (power) "Regulated Voltage Output"

## MCP1703A-1502E/MC
designator U?
250 mA, 16 V, Low Quiescent Current LDO Regulator, -40 to 125 degC, 8-pin DFN (MC8), Tube; Manufacturer: Microchip; PartNumber: MCP1703A-1502E/MC; DatasheetVersion: Rev. A; PackageVersion: C04-123C; PackageReference: DFN-MC8; PackageDescription: 8-Lead Plastic Dual Flat, 2 x 3 mm Body, 0.5 mm Pitch; Mounting Technology: Surface Mount; ComponentLink1Description: Manufacturer URL; ComponentLink1URL: http://www.microchip.com; ComponentLink2Description: Datasheet; ComponentLink2URL: http://ww1.microchip.com/downloads/en/DeviceDoc/25122A.pdf; ComponentLink3Description: Package Specification; ComponentLink3URL: http://www.microchip.com/stellent/groups/techpub_sg/documents/packagingspec/en012702.pdf; ComponentLink4Description: Product URL; ComponentLink4URL: http://www.microchip.com/MCP1703A
footprint MCHP-DFN-MC8_V (SON, 8-Leads, Body 3x2mm, Pitch 0.5mm, Thermal Pad 1.45x1.75mm)
part A pins: 1 VOUT (power) "Regulated Voltage Output", 4 GND (power) "Ground Terminal", 8 VIN (power) "Unregulated Supply Voltage", 9 EP (power) "Exposed Thermal Pad (EP); must be connected to VSS"
part B pins: 2 NC "No Connection", 3 NC "No Connection", 5 NC "No Connection", 6 NC "No Connection", 7 NC "No Connection"

## MCP1703A-1802E/DB
designator U?
250 mA, 16 V, Low Quiescent Current LDO Regulator, -40 to 125 degC, 3-pin SOT-223 (DB3), Tube; Manufacturer: Microchip; PartNumber: MCP1703A-1802E/DB; DatasheetVersion: Rev. A; PackageVersion: C04-032B; PackageReference: SOT-223-DB3; PackageDescription: 3-Lead Plastic Small Outline Transistor, 6.5 x 3.5 mm Body, 2.3 mm Pitch; Supplier 1: Digi-Key; Supplier Part Number 1: MCP1703A-1802E/DB-ND; Supplier 2: Newark; Supplier Part Number 2: 90T5914; Supplier 3: Mouser; Supplier Part Number 3: 579-MCP1703A-1802EDB; Mounting Technology: Surface Mount; ComponentLink1Description: Manufacturer URL; ComponentLink1URL: http://www.microchip.com; ComponentLink2Description: Datasheet; ComponentLink2URL: http://ww1.microchip.com/downloads/en/DeviceDoc/25122A.pdf; ComponentLink3Description: Package Specification; ComponentLink3URL: http://www.microchip.com/stellent/groups/techpub_sg/documents/packagingspec/en012702.pdf; ComponentLink4Description: Product URL; ComponentLink4URL: http://www.microchip.com/MCP1703A
footprint MCHP-SOT-223-DB3_N (SOT223, 3-Leads, Body 6.5x3.5mm, Pitch 2.3mm, IPC Medium Density)
footprint MCHP-SOT-223-DB3_L (SOT223, 3-Leads, Body 6.5x3.5mm, Pitch 2.3mm, IPC High Density)
footprint MCHP-SOT-223-DB3_M (SOT223, 3-Leads, Body 6.5x3.5mm, Pitch 2.3mm, IPC Low Density)
pins: 1 VIN (power) "Unregulated Supply Voltage", 2 GND (power) "Ground Terminal", 3 VOUT (power) "Regulated Voltage Output"

## MCP1703A-1802E/MC
designator U?
250 mA, 16 V, Low Quiescent Current LDO Regulator, -40 to 125 degC, 8-pin DFN (MC8), Tube; Manufacturer: Microchip; PartNumber: MCP1703A-1802E/MC; DatasheetVersion: Rev. A; PackageVersion: C04-123C; PackageReference: DFN-MC8; PackageDescription: 8-Lead Plastic Dual Flat, 2 x 3 mm Body, 0.5 mm Pitch; Mounting Technology: Surface Mount; ComponentLink1Description: Manufacturer URL; ComponentLink1URL: http://www.microchip.com; ComponentLink2Description: Datasheet; ComponentLink2URL: http://ww1.microchip.com/downloads/en/DeviceDoc/25122A.pdf; ComponentLink3Description: Package Specification; ComponentLink3URL: http://www.microchip.com/stellent/groups/techpub_sg/documents/packagingspec/en012702.pdf; ComponentLink4Description: Product URL; ComponentLink4URL: http://www.microchip.com/MCP1703A
footprint MCHP-DFN-MC8_V (SON, 8-Leads, Body 3x2mm, Pitch 0.5mm, Thermal Pad 1.45x1.75mm)
part A pins: 1 VOUT (power) "Regulated Voltage Output", 4 GND (power) "Ground Terminal", 8 VIN (power) "Unregulated Supply Voltage", 9 EP (power) "Exposed Thermal Pad (EP); must be connected to VSS"
part B pins: 2 NC "No Connection", 3 NC "No Connection", 5 NC "No Connection", 6 NC "No Connection", 7 NC "No Connection"

## MCP1703A-2502E/DB
designator U?
250 mA, 16 V, Low Quiescent Current LDO Regulator, -40 to 125 degC, 3-pin SOT-223 (DB3), Tube; Manufacturer: Microchip; PartNumber: MCP1703A-2502E/DB; DatasheetVersion: Rev. A; PackageVersion: C04-032B; PackageReference: SOT-223-DB3; PackageDescription: 3-Lead Plastic Small Outline Transistor, 6.5 x 3.5 mm Body, 2.3 mm Pitch; Supplier 1: Digi-Key; Supplier Part Number 1: MCP1703A-2502E/DB-ND; Supplier 2: Newark; Supplier Part Number 2: 90T5915; Supplier 3: Mouser; Supplier Part Number 3: 579-MCP1703A-2502EDB; Mounting Technology: Surface Mount; ComponentLink1Description: Manufacturer URL; ComponentLink1URL: http://www.microchip.com; ComponentLink2Description: Datasheet; ComponentLink2URL: http://ww1.microchip.com/downloads/en/DeviceDoc/25122A.pdf; ComponentLink3Description: Package Specification; ComponentLink3URL: http://www.microchip.com/stellent/groups/techpub_sg/documents/packagingspec/en012702.pdf; ComponentLink4Description: Product URL; ComponentLink4URL: http://www.microchip.com/MCP1703A
footprint MCHP-SOT-223-DB3_N (SOT223, 3-Leads, Body 6.5x3.5mm, Pitch 2.3mm, IPC Medium Density)
footprint MCHP-SOT-223-DB3_L (SOT223, 3-Leads, Body 6.5x3.5mm, Pitch 2.3mm, IPC High Density)
footprint MCHP-SOT-223-DB3_M (SOT223, 3-Leads, Body 6.5x3.5mm, Pitch 2.3mm, IPC Low Density)
pins: 1 VIN (power) "Unregulated Supply Voltage", 2 GND (power) "Ground Terminal", 3 VOUT (power) "Regulated Voltage Output"

## MCP1703A-2502E/MC
designator U?
250 mA, 16 V, Low Quiescent Current LDO Regulator, -40 to 125 degC, 8-pin DFN (MC8), Tube; Manufacturer: Microchip; PartNumber: MCP1703A-2502E/MC; DatasheetVersion: Rev. A; PackageVersion: C04-123C; PackageReference: DFN-MC8; PackageDescription: 8-Lead Plastic Dual Flat, 2 x 3 mm Body, 0.5 mm Pitch; Mounting Technology: Surface Mount; ComponentLink1Description: Manufacturer URL; ComponentLink1URL: http://www.microchip.com; ComponentLink2Description: Datasheet; ComponentLink2URL: http://ww1.microchip.com/downloads/en/DeviceDoc/25122A.pdf; ComponentLink3Description: Package Specification; ComponentLink3URL: http://www.microchip.com/stellent/groups/techpub_sg/documents/packagingspec/en012702.pdf; ComponentLink4Description: Product URL; ComponentLink4URL: http://www.microchip.com/MCP1703A
footprint MCHP-DFN-MC8_V (SON, 8-Leads, Body 3x2mm, Pitch 0.5mm, Thermal Pad 1.45x1.75mm)
part A pins: 1 VOUT (power) "Regulated Voltage Output", 4 GND (power) "Ground Terminal", 8 VIN (power) "Unregulated Supply Voltage", 9 EP (power) "Exposed Thermal Pad (EP); must be connected to VSS"
part B pins: 2 NC "No Connection", 3 NC "No Connection", 5 NC "No Connection", 6 NC "No Connection", 7 NC "No Connection"

## MCP1703A-2802E/DB
designator U?
250 mA, 16 V, Low Quiescent Current LDO Regulator, -40 to 125 degC, 3-pin SOT-223 (DB3), Tube; Manufacturer: Microchip; PartNumber: MCP1703A-2802E/DB; DatasheetVersion: Rev. A; PackageVersion: C04-032B; PackageReference: SOT-223-DB3; PackageDescription: 3-Lead Plastic Small Outline Transistor, 6.5 x 3.5 mm Body, 2.3 mm Pitch; Supplier 1: Digi-Key; Supplier Part Number 1: MCP1703A-2802E/DB-ND; Supplier 2: Newark; Supplier Part Number 2: 90T5916; Supplier 3: Mouser; Supplier Part Number 3: 579-MCP1703A-2802EDB; Mounting Technology: Surface Mount; ComponentLink1Description: Manufacturer URL; ComponentLink1URL: http://www.microchip.com; ComponentLink2Description: Datasheet; ComponentLink2URL: http://ww1.microchip.com/downloads/en/DeviceDoc/25122A.pdf; ComponentLink3Description: Package Specification; ComponentLink3URL: http://www.microchip.com/stellent/groups/techpub_sg/documents/packagingspec/en012702.pdf; ComponentLink4Description: Product URL; ComponentLink4URL: http://www.microchip.com/MCP1703A
footprint MCHP-SOT-223-DB3_N (SOT223, 3-Leads, Body 6.5x3.5mm, Pitch 2.3mm, IPC Medium Density)
footprint MCHP-SOT-223-DB3_L (SOT223, 3-Leads, Body 6.5x3.5mm, Pitch 2.3mm, IPC High Density)
footprint MCHP-SOT-223-DB3_M (SOT223, 3-Leads, Body 6.5x3.5mm, Pitch 2.3mm, IPC Low Density)
pins: 1 VIN (power) "Unregulated Supply Voltage", 2 GND (power) "Ground Terminal", 3 VOUT (power) "Regulated Voltage Output"

## MCP1703A-2802E/MC
designator U?
250 mA, 16 V, Low Quiescent Current LDO Regulator, -40 to 125 degC, 8-pin DFN (MC8), Tube; Manufacturer: Microchip; PartNumber: MCP1703A-2802E/MC; DatasheetVersion: Rev. A; PackageVersion: C04-123C; PackageReference: DFN-MC8; PackageDescription: 8-Lead Plastic Dual Flat, 2 x 3 mm Body, 0.5 mm Pitch; Mounting Technology: Surface Mount; ComponentLink1Description: Manufacturer URL; ComponentLink1URL: http://www.microchip.com; ComponentLink2Description: Datasheet; ComponentLink2URL: http://ww1.microchip.com/downloads/en/DeviceDoc/25122A.pdf; ComponentLink3Description: Package Specification; ComponentLink3URL: http://www.microchip.com/stellent/groups/techpub_sg/documents/packagingspec/en012702.pdf; ComponentLink4Description: Product URL; ComponentLink4URL: http://www.microchip.com/MCP1703A
footprint MCHP-DFN-MC8_V (SON, 8-Leads, Body 3x2mm, Pitch 0.5mm, Thermal Pad 1.45x1.75mm)
part A pins: 1 VOUT (power) "Regulated Voltage Output", 4 GND (power) "Ground Terminal", 8 VIN (power) "Unregulated Supply Voltage", 9 EP (power) "Exposed Thermal Pad (EP); must be connected to VSS"
part B pins: 2 NC "No Connection", 3 NC "No Connection", 5 NC "No Connection", 6 NC "No Connection", 7 NC "No Connection"

## MCP1703A-3002E/DB
designator U?
250 mA, 16 V, Low Quiescent Current LDO Regulator, -40 to 125 degC, 3-pin SOT-223 (DB3), Tube; Manufacturer: Microchip; PartNumber: MCP1703A-3002E/DB; DatasheetVersion: Rev. A; PackageVersion: C04-032B; PackageReference: SOT-223-DB3; PackageDescription: 3-Lead Plastic Small Outline Transistor, 6.5 x 3.5 mm Body, 2.3 mm Pitch; Supplier 1: Digi-Key; Supplier Part Number 1: MCP1703A-3002E/DB-ND; Supplier 2: Newark; Supplier Part Number 2: 90T5917; Supplier 3: Mouser; Supplier Part Number 3: 579-MCP1703A-3002EDB; Mounting Technology: Surface Mount; ComponentLink1Description: Manufacturer URL; ComponentLink1URL: http://www.microchip.com; ComponentLink2Description: Datasheet; ComponentLink2URL: http://ww1.microchip.com/downloads/en/DeviceDoc/25122A.pdf; ComponentLink3Description: Package Specification; ComponentLink3URL: http://www.microchip.com/stellent/groups/techpub_sg/documents/packagingspec/en012702.pdf; ComponentLink4Description: Product URL; ComponentLink4URL: http://www.microchip.com/MCP1703A
footprint MCHP-SOT-223-DB3_N (SOT223, 3-Leads, Body 6.5x3.5mm, Pitch 2.3mm, IPC Medium Density)
footprint MCHP-SOT-223-DB3_L (SOT223, 3-Leads, Body 6.5x3.5mm, Pitch 2.3mm, IPC High Density)
footprint MCHP-SOT-223-DB3_M (SOT223, 3-Leads, Body 6.5x3.5mm, Pitch 2.3mm, IPC Low Density)
pins: 1 VIN (power) "Unregulated Supply Voltage", 2 GND (power) "Ground Terminal", 3 VOUT (power) "Regulated Voltage Output"

## MCP1703A-3002E/MC
designator U?
250 mA, 16 V, Low Quiescent Current LDO Regulator, -40 to 125 degC, 8-pin DFN (MC8), Tube; Manufacturer: Microchip; PartNumber: MCP1703A-3002E/MC; DatasheetVersion: Rev. A; PackageVersion: C04-123C; PackageReference: DFN-MC8; PackageDescription: 8-Lead Plastic Dual Flat, 2 x 3 mm Body, 0.5 mm Pitch; Mounting Technology: Surface Mount; ComponentLink1Description: Manufacturer URL; ComponentLink1URL: http://www.microchip.com; ComponentLink2Description: Datasheet; ComponentLink2URL: http://ww1.microchip.com/downloads/en/DeviceDoc/25122A.pdf; ComponentLink3Description: Package Specification; ComponentLink3URL: http://www.microchip.com/stellent/groups/techpub_sg/documents/packagingspec/en012702.pdf; ComponentLink4Description: Product URL; ComponentLink4URL: http://www.microchip.com/MCP1703A
footprint MCHP-DFN-MC8_V (SON, 8-Leads, Body 3x2mm, Pitch 0.5mm, Thermal Pad 1.45x1.75mm)
part A pins: 1 VOUT (power) "Regulated Voltage Output", 4 GND (power) "Ground Terminal", 8 VIN (power) "Unregulated Supply Voltage", 9 EP (power) "Exposed Thermal Pad (EP); must be connected to VSS"
part B pins: 2 NC "No Connection", 3 NC "No Connection", 5 NC "No Connection", 6 NC "No Connection", 7 NC "No Connection"

## MCP1703A-3302E/DB
designator U?
250 mA, 16 V, Low Quiescent Current LDO Regulator, -40 to 125 degC, 3-pin SOT-223 (DB3), Tube; Manufacturer: Microchip; PartNumber: MCP1703A-3302E/DB; DatasheetVersion: Rev. A; PackageVersion: C04-032B; PackageReference: SOT-223-DB3; PackageDescription: 3-Lead Plastic Small Outline Transistor, 6.5 x 3.5 mm Body, 2.3 mm Pitch; Supplier 1: Digi-Key; Supplier Part Number 1: MCP1703A-3302E/DB-ND; Supplier 2: Farnell; Supplier Part Number 2: 2113888; Supplier 3: Newark; Supplier Part Number 3: 95T9278; Supplier 4: Newark; Supplier Part Number 4: 90T5918; Supplier 5: Mouser; Supplier Part Number 5: 579-MCP1703A-3302EDB; Mounting Technology: Surface Mount; ComponentLink1Description: Manufacturer URL; ComponentLink1URL: http://www.microchip.com; ComponentLink2Description: Datasheet; ComponentLink2URL: http://ww1.microchip.com/downloads/en/DeviceDoc/25122A.pdf; ComponentLink3Description: Package Specification; ComponentLink3URL: http://www.microchip.com/stellent/groups/techpub_sg/documents/packagingspec/en012702.pdf; ComponentLink4Description: Product URL; ComponentLink4URL: http://www.microchip.com/MCP1703A
footprint MCHP-SOT-223-DB3_N (SOT223, 3-Leads, Body 6.5x3.5mm, Pitch 2.3mm, IPC Medium Density)
footprint MCHP-SOT-223-DB3_L (SOT223, 3-Leads, Body 6.5x3.5mm, Pitch 2.3mm, IPC High Density)
footprint MCHP-SOT-223-DB3_M (SOT223, 3-Leads, Body 6.5x3.5mm, Pitch 2.3mm, IPC Low Density)
pins: 1 VIN (power) "Unregulated Supply Voltage", 2 GND (power) "Ground Terminal", 3 VOUT (power) "Regulated Voltage Output"

## MCP1703A-3302E/MC
designator U?
250 mA, 16 V, Low Quiescent Current LDO Regulator, -40 to 125 degC, 8-pin DFN (MC8), Tube; Manufacturer: Microchip; PartNumber: MCP1703A-3302E/MC; DatasheetVersion: Rev. A; PackageVersion: C04-123C; PackageReference: DFN-MC8; PackageDescription: 8-Lead Plastic Dual Flat, 2 x 3 mm Body, 0.5 mm Pitch; Mounting Technology: Surface Mount; ComponentLink1Description: Manufacturer URL; ComponentLink1URL: http://www.microchip.com; ComponentLink2Description: Datasheet; ComponentLink2URL: http://ww1.microchip.com/downloads/en/DeviceDoc/25122A.pdf; ComponentLink3Description: Package Specification; ComponentLink3URL: http://www.microchip.com/stellent/groups/techpub_sg/documents/packagingspec/en012702.pdf; ComponentLink4Description: Product URL; ComponentLink4URL: http://www.microchip.com/MCP1703A
footprint MCHP-DFN-MC8_V (SON, 8-Leads, Body 3x2mm, Pitch 0.5mm, Thermal Pad 1.45x1.75mm)
part A pins: 1 VOUT (power) "Regulated Voltage Output", 4 GND (power) "Ground Terminal", 8 VIN (power) "Unregulated Supply Voltage", 9 EP (power) "Exposed Thermal Pad (EP); must be connected to VSS"
part B pins: 2 NC "No Connection", 3 NC "No Connection", 5 NC "No Connection", 6 NC "No Connection", 7 NC "No Connection"